# EAGLE library part TCA9548A (library TCA9548A)
Description The TCA9548A device has eight bidirectional translating switches that can be controlled through the I2C bus. The SCL/SDA upstream pair fans out to eight downstream pairs, or channels. Any individual SCn/SDn channel or combination of channels can be selected, determined by the contents of the programmable control register. These downstream channels can be used to resolve I2C slave address conflicts. For example, if eight identical digital temperature sensors are needed in the application, one sensor can be connected at each channel: 0–7. Features • 1-to-8 Bidirectional Translating Switches • I2C Bus and SMBus Compatible • Active-Low Reset Input • Three Address Pins, Allowing up to Eight TCA9548A Devices on the I2C Bus • Channel Selection Through an I2C Bus, In Any Combination
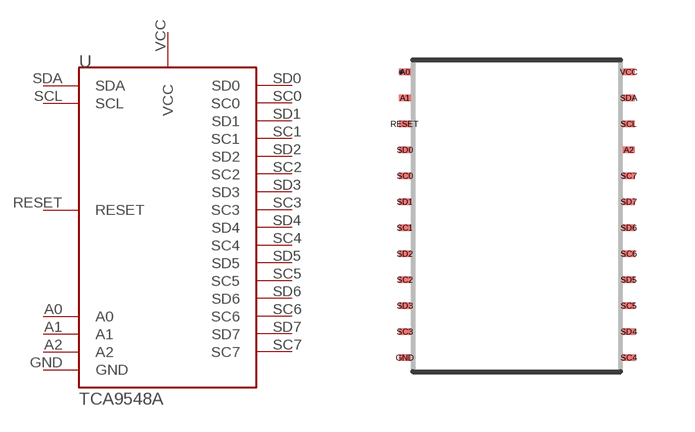
[diagram p0: symbol with the pads of TCA9548A; footprint TCA9548A]

Designator prefix U

## TCA9548A  [TCA9548A]
A0  A0
A1  A1
A2  A2
GND  GND  pwr
RESET  RESET
SC0  SC0
SC1  SC1
SC2  SC2
SC3  SC3
SC4  SC4
SC5  SC5
SC6  SC6
SC7  SC7
SCL  SCL
SD0  SD0
SD1  SD1
SD2  SD2
SD3  SD3
SD4  SD4
SD5  SD5
SD6  SD6
SD7  SD7
SDA  SDA
VCC  VCC  pwr

## Footprint TCA9548A (pad centres in mm)
smd 0.305 x 0.152: A0 -2.7,3.25; A1 -2.7,2.6; A2 2.9,1.3; GND -2.7,-3.9; RESET -2.7,1.95; SC0 -2.7,0.65; SC1 -2.7,-0.65; SC2 -2.7,-1.95; SC3 -2.7,-3.25; SC4 2.9,-3.9; SC5 2.9,-2.6; SC6 2.9,-1.3; SC7 2.9,0.65; SCL 2.9,1.95; SD0 -2.7,1.3; SD1 -2.7,0; SD2 -2.7,-1.3; SD3 -2.7,-2.6; SD4 2.9,-3.25; SD5 2.9,-1.95; SD6 2.9,-0.65; SD7 2.9,0; SDA 2.9,2.6; VCC 2.9,3.25